# Altium footprint library Components - 28.02.25 - 10.16.PcbLib: 1 footprints
Each footprint in its own frame and in the unit in brackets; x right, y up, seen from the top. Pads: shape width x height; smd on the part's side, far side on the other; paste and mask are expansions set on the pad; w line width, h text height; cw(c..) or ccw(c..) is an arc to the next point about the centre after c.
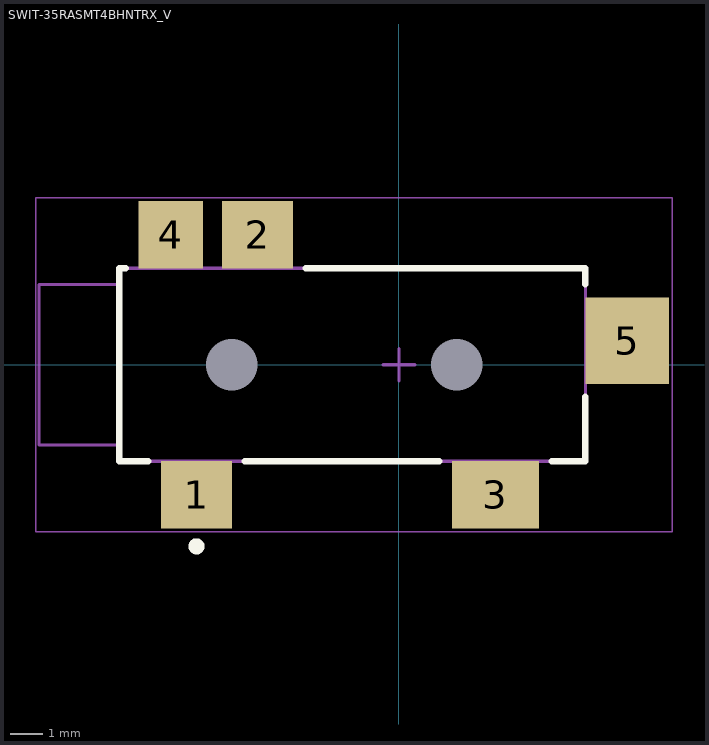
[diagram p0: the footprint, top view; thin cyan lines are the x and y axes]

## SWIT-35RASMT4BHNTRX_V [mm] "Jack, 5-Leads, Body 17x6mm"
height 5
pads (7):
  rect 2.2x2.1 smd: 1(-6.3,-4.05) 2(-4.4,4.05)
  rect 2.7x2.1 smd: 3(3,-4.05)
  rect 2x2.1 smd: 4(-7.1,4.05)
  rect 2.6x2.7 smd: 5(7.1,0.75)
  rect 0x0 hole 1.6 unplated: MH(-5.2,0) MH(1.8,0)
Top Overlay:
  circle w0.25: c-6.3,-5.65 r0.125
  lines w0.2: -8.5,3 -8.7,3 -8.7,-3 -7.8,-3 ; -4.8,-3 1.25,-3 ; -2.9,3 5.8,3 5.8,2.5 ; 4.75,-3 5.8,-3 5.8,-1
Mechanical 13:
  lines w0.1: -8.7,-2.499 -11.2,-2.499 -11.2,2.499 -8.7,2.499 ; -8.7,-3 -8.7,3 5.8,3 5.8,-3 -8.7,-3
Mechanical 15:
  lines w0.05: -11.3,-5.2 -11.3,5.2 8.5,5.2 8.5,-5.2 -11.3,-5.2
  lines w0.1: -0.5,0 0.5,0 ; 0,-0.5 0,0.5
3D body: height 0, standoff -0.8, extent -5.95,-0.75 -4.45,0.75
3D body: height 5, standoff 0, extent -11.2,-2.499 -8.7,2.499
3D body: height 5, standoff 0, extent -8.7,-3 5.8,3
3D body: height 0, standoff -0.8, extent 1.05,-0.75 2.55,0.75
3D body: height 4.3, standoff 0.7, extent -11.201,-1.8 -8.7,1.8